# Altium footprint library DISPLAY - PMOLED.PcbLib: 2 footprints
Each footprint in its own frame and in the unit in brackets; x right, y up, seen from the top. Pads: shape width x height; smd on the part's side, far side on the other; paste and mask are expansions set on the pad; w line width, h text height; cw(c..) or ccw(c..) is an arc to the next point about the centre after c.
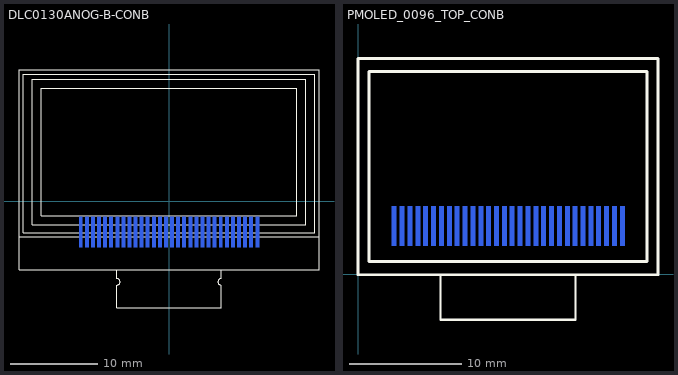
[diagram p0: the footprints below, top view; thin cyan lines are the x and y axes]

## DLC0130ANOG-B-CONB [mm]
height 1.4
pads (30):
  rect 0.4x3.5 smd far side paste+0 mask+0.02: 1(-10.15,-3.505) 2(-9.45,-3.505) 3(-8.75,-3.505) 4(-8.05,-3.505) 5(-7.35,-3.505) 6(-6.65,-3.505) 7(-5.95,-3.505) 8(-5.25,-3.505) 9(-4.55,-3.505) 10(-3.85,-3.505) 11(-3.15,-3.505) 12(-2.45,-3.505) 13(-1.75,-3.505) 14(-1.05,-3.505) 15(-0.35,-3.505) 16(0.35,-3.505) 17(1.05,-3.505) 18(1.75,-3.505) 19(2.45,-3.505) 20(3.15,-3.505) 21(3.85,-3.505) 22(4.55,-3.505) 23(5.25,-3.505) 24(5.95,-3.505) 25(6.65,-3.505) 26(7.35,-3.505) 27(8.05,-3.505) 28(8.75,-3.505) 29(9.45,-3.505) 30(10.15,-3.505)
Top Overlay:
  lines w0.1: -17.25,-4.08 17.25,-4.08 ; -6,-7.88 -6,-8.88 cw(c-6,-9.255) -6,-9.63 -6,-12.25 5.975,-12.25 ; 6,-12.275 6,-9.63 cw(c6,-9.255) 6,-8.88 6,-7.88 ; -17.25,-7.88 17.25,-7.88 17.25,15.12 -17.25,15.12 -17.25,-7.88 ; -16.75,-3.58 -16.75,14.62 16.75,14.62 16.75,-3.58 -16.75,-3.58 ; -15.71,-2.68 15.71,-2.68 15.71,14.02 -15.71,14.02 -15.71,-2.68 ; -14.71,-1.68 14.71,-1.68 14.71,13.02 -14.71,13.02 -14.71,-1.68
Bottom Overlay:
  lines w0.1: -10.675,-3.505 -11,-3.505 -11,-5.38 -6,-10.38 -6,-11.38 ; 6,-11.38 6,-10.655 11,-5.655 11,-3.505 10.675,-3.505
3D body "LCD.STEP": height 1.4, standoff -0.92, extent -17.225,-12.26 17.275,15.125

## PMOLED_0096_TOP_CONB [mm]
pads (30):
  rect 0.4x3.5 smd far side paste+0 mask+0.02: 1(3.185,4.318) 2(3.885,4.318) 3(4.585,4.318) 4(5.285,4.318) 5(5.985,4.318) 6(6.685,4.318) 7(7.385,4.318) 8(8.085,4.318) 9(8.785,4.318) 10(9.485,4.318) 11(10.185,4.318) 12(10.885,4.318) 13(11.585,4.318) 14(12.285,4.318) 15(12.985,4.318) 16(13.685,4.318) 17(14.385,4.318) 18(15.085,4.318) 19(15.785,4.318) 20(16.485,4.318) 21(17.185,4.318) 22(17.885,4.318) 23(18.585,4.318) 24(19.285,4.318) 25(19.985,4.318) 26(20.685,4.318) 27(21.385,4.318) 28(22.085,4.318) 29(22.785,4.318) 30(23.485,4.318)
Top Overlay:
  lines w0.2: 7.31,-0.024 7.31,-4.024 19.31,-4.024 19.31,-0.024
  lines w0.254: -0.04,-0.024 26.66,-0.024 26.66,19.236 -0.04,19.236 -0.04,-0.024 ; 0.94,1.156 25.68,1.156 25.68,18.056 0.94,18.056 0.94,1.156
3D body "LCD.STEP": height 1.6, standoff 0, extent -0.081,-0.054 26.619,19.206